# EAGLE library part XBEE-S2C (library XBEES2)
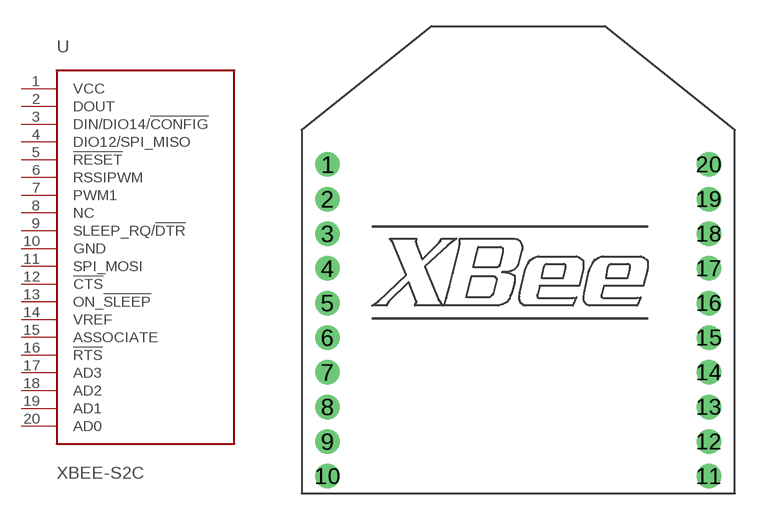
[diagram p0: symbol with the pads of XBEE-DIP; footprint XBEE-DIP]

Designator prefix -

## XBEE-S2C  [XBEE-DIP]
1  VCC
2  DOUT
3  DIN/DIO14/!CONFIG
4  DIO12/SPI_MISO
5  !RESET
6  RSSIPWM
7  PWM1
8  NC
9  SLEEP_RQ/!DTR
10  GND
11  SPI_MOSI
12  !CTS
13  ON_!SLEEP
14  VREF
15  ASSOCIATE
16  !RTS
17  AD3
18  AD2
19  AD1
20  AD0

## Footprint XBEE-DIP (pad centres in mm)
drill 0.9: 1 -11,9; 2 -11,7; 3 -11,5; 4 -11,3; 5 -11,1; 6 -11,-1; 7 -11,-3; 8 -11,-5; 9 -11,-7; 10 -11,-9; 11 11,-9; 12 11,-7; 13 11,-5; 14 11,-3; 15 11,-1; 16 11,1; 17 11,3; 18 11,5; 19 11,7; 20 11,9